# EAGLE library part BOB_ARM_LPC11U24 (library CEDTv78)
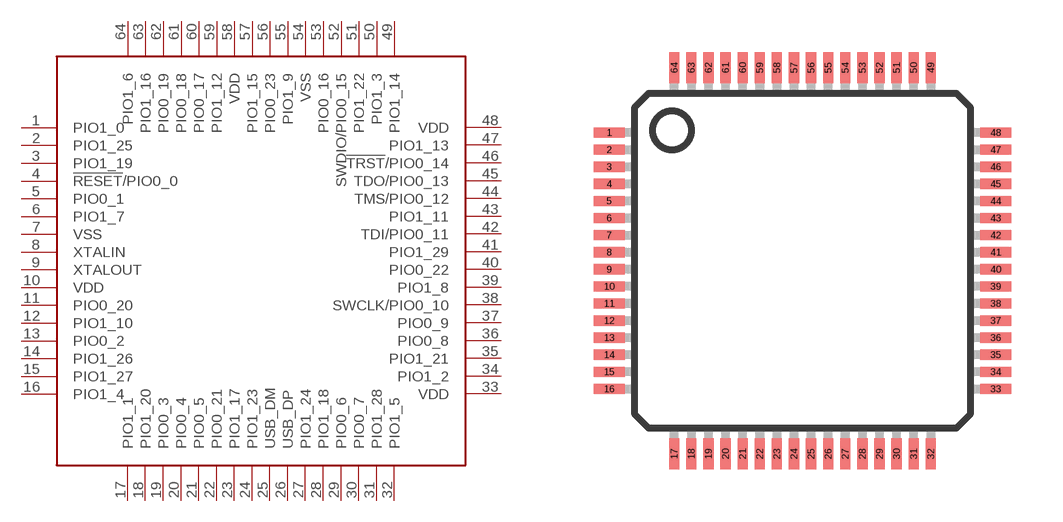
[diagram p58: symbol with the pads of BOB_LPC11U24; footprint BOB_LPC11U24]

Designator prefix -

## BOB_ARM_LPC11U24  [BOB_LPC11U24]
1  PIO1_0
2  PIO1_25
3  PIO1_19
4  !RESET!/PIO0_0
5  PIO0_1
6  PIO1_7
7  VSS
8  XTALIN
9  XTALOUT
10  VDD
11  PIO0_20
12  PIO1_10
13  PIO0_2
14  PIO1_26
15  PIO1_27
16  PIO1_4
17  PIO1_1
18  PIO1_20
19  PIO0_3
20  PIO0_4
21  PIO0_5
22  PIO0_21
23  PIO1_17
24  PIO1_23
25  USB_DM
26  USB_DP
27  PIO1_24
28  PIO1_18
29  PIO0_6
30  PIO0_7
31  PIO1_28
32  PIO1_5
33  VDD
34  PIO1_2
35  PIO1_21
36  PIO0_8
37  PIO0_9
38  SWCLK/PIO0_10
39  PIO1_8
40  PIO0_22
41  PIO1_29
42  TDI/PIO0_11
43  PIO1_11
44  TMS/PIO0_12
45  TDO/PIO0_13
46  !TRST!/PIO0_14
47  PIO1_13
48  VDD
49  PIO1_14
50  PIO1_3
51  PIO1_22
52  SWDIO/PIO0_15
53  PIO0_16
54  VSS
55  PIO1_9
56  PIO0_23
57  PIO1_15
58  VDD
59  PIO1_12
60  PIO0_17
61  PIO0_18
62  PIO0_19
63  PIO1_16
64  PIO1_6

## Footprint BOB_LPC11U24 (pad centres in mm)
smd 0.9 x 0.3: 1 -5.65,3.75; 2 -5.65,3.25; 3 -5.65,2.75; 4 -5.65,2.25; 5 -5.65,1.75; 6 -5.65,1.25; 7 -5.65,0.75; 8 -5.65,0.25; 9 -5.65,-0.25; 10 -5.65,-0.75; 11 -5.65,-1.25; 12 -5.65,-1.75; 13 -5.65,-2.25; 14 -5.65,-2.75; 15 -5.65,-3.25; 16 -5.65,-3.75; 33 5.65,-3.75; 34 5.65,-3.25; 35 5.65,-2.75; 36 5.65,-2.25; 37 5.65,-1.75; 38 5.65,-1.25; 39 5.65,-0.75; 40 5.65,-0.25; 41 5.65,0.25; 42 5.65,0.75; 43 5.65,1.25; 44 5.65,1.75; 45 5.65,2.25; 46 5.65,2.75; 47 5.65,3.25; 48 5.65,3.75
smd 0.3 x 0.9: 17 -3.75,-5.65; 18 -3.25,-5.65; 19 -2.75,-5.65; 20 -2.25,-5.65; 21 -1.75,-5.65; 22 -1.25,-5.65; 23 -0.75,-5.65; 24 -0.25,-5.65; 25 0.25,-5.65; 26 0.75,-5.65; 27 1.25,-5.65; 28 1.75,-5.65; 29 2.25,-5.65; 30 2.75,-5.65; 31 3.25,-5.65; 32 3.75,-5.65; 49 3.75,5.65; 50 3.25,5.65; 51 2.75,5.65; 52 2.25,5.65; 53 1.75,5.65; 54 1.25,5.65; 55 0.75,5.65; 56 0.25,5.65; 57 -0.25,5.65; 58 -0.75,5.65; 59 -1.25,5.65; 60 -1.75,5.65; 61 -2.25,5.65; 62 -2.75,5.65; 63 -3.25,5.65; 64 -3.75,5.65